# Altium footprint library Humidity Regulator.PcbLib: 29 footprints (part 1 of 2)
Each footprint in its own frame and in the unit in brackets; x right, y up, seen from the top. Pads: shape width x height; smd on the part's side, far side on the other; paste and mask are expansions set on the pad; w line width, h text height; cw(c..) or ccw(c..) is an arc to the next point about the centre after c.
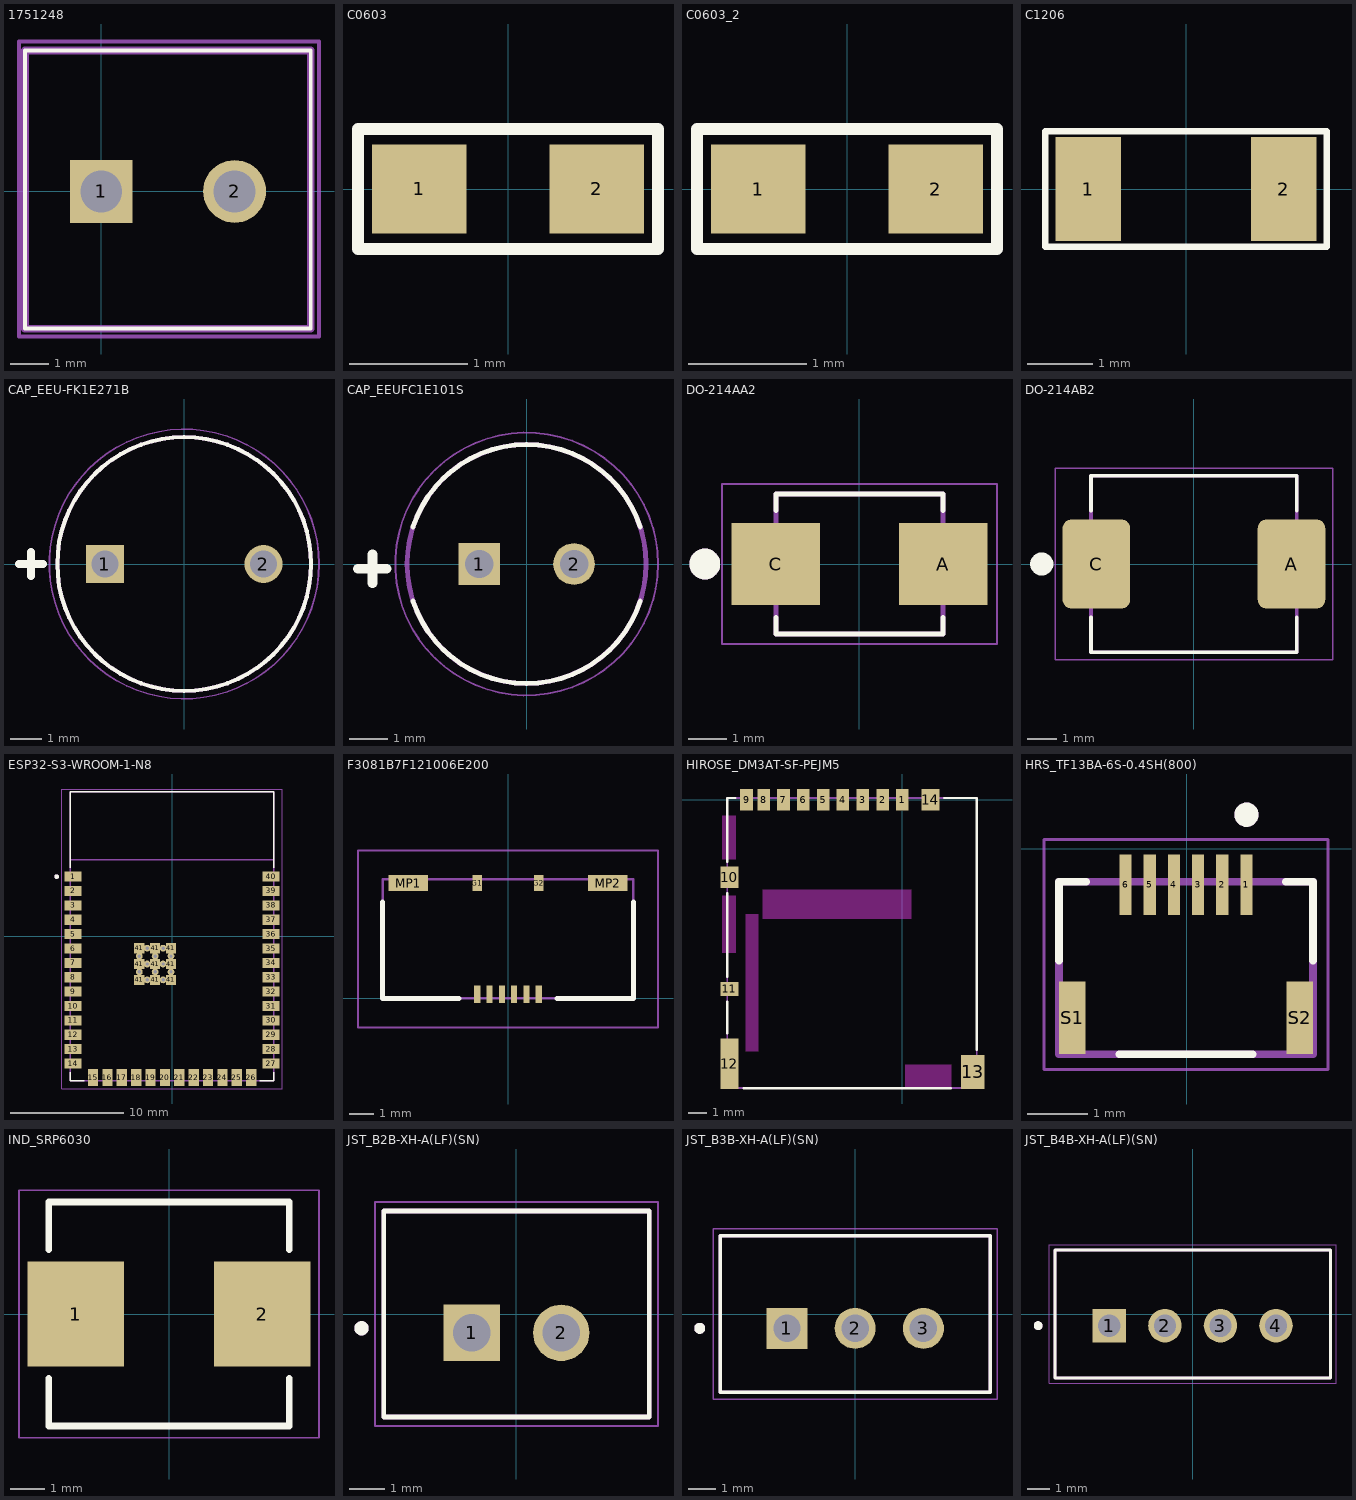
[diagram p0: the footprints below, top view; thin cyan lines are the x and y axes]

## 1751248 [mm]
height 35
pads (2):
  rect 1.65x1.65 hole 1.1: 1(0,0)
  round 1.65 hole 1.1: 2(3.5,0)
Top Overlay:
  lines w0.1: -2,-3.6 5.5,-3.6 5.5,3.7 -2,3.7 -2,-3.6
Mechanical 15:
  lines w0.2: -2,-3.6 5.5,-3.6 5.5,3.7 -2,3.7 -2,-3.6
Mechanical 20:
  lines w0.1: -2.159,-3.81 5.715,-3.81 5.715,3.937 -2.159,3.937 -2.159,-3.81
3D body "1751248.stp": height 8.5, standoff -3.5, extent -1.972,-3.65 5.528,3.65

## C0603 [mm] "CAPACITOR SMD 0603"
height 0.9
pads (2):
  rect 0.8x0.75 smd: 1(-0.75,0) 2(0.75,0)
Top Overlay:
  lines w0.1: -1.27,-0.508 1.27,-0.508 1.27,0.508 -1.27,0.508 -1.27,-0.508
3D body "User Library-0603(1608M) Cap.STEP": height 0.79, standoff 0, extent -1,-0.394 1,0.394

## C0603_2 [mm]
pads (2):
  rect 0.8x0.75 smd: 1(-0.75,0) 2(0.75,0)
Top Overlay:
  lines w0.1: -1.27,-0.508 -1.27,0.508 1.27,0.508 1.27,-0.508 -1.27,-0.508
3D body "User Library-0603(1608M) Cap.STEP": height 0.79, standoff 0, extent -1,-0.394 1,0.394

## C1206 [mm] "CAPACITOR SMD 1206"
height 0.94
pads (2):
  rect 1x1.6 smd: 1(-1.5,0) 2(1.5,0)
Top Overlay:
  lines w0.1: -2.159,-0.889 2.159,-0.889 2.159,0.889 -2.159,0.889 -2.159,-0.889
3D body "User Library-1206(3216M) Cap.STEP": height 1.53, standoff 0, extent -2,-0.8 2,0.8

## CAP_EEU-FK1E271B [mm]
height 13.5
pads (2):
  rect 1.2x1.2 hole 0.85: 1(-2.5,0)
  round 1.2 hole 0.85: 2(2.5,0)
Top Overlay:
  circle w0.127: c0,0 r4
  lines w0.254: -5.207,0 -4.445,0 ; -4.826,-0.381 -4.826,0.381
Mechanical 13:
  circle w0.127: c0,0 r4
Mechanical 15:
  circle w0.05: c0,0 r4.25
3D body "step_temp.STEP": height 11.5, standoff -17, extent -4,-4 4,4

## CAP_EEUFC1E101S [mm]
height 13.5
pads (2):
  rect 1.1x1.1 hole 0.75: 1(-1.25,0)
  round 1.1 hole 0.75: 2(1.25,0)
Top Overlay:
  lines w0.127: -2.996,-0.973 ccw(c0,0) 2.996,-0.973 ; -2.996,0.973 cw(c0,0) 2.996,0.973
  lines w0.254: -4.445,-0.127 -3.683,-0.127 ; -4.064,-0.508 -4.064,0.254
Mechanical 13:
  circle w0.127: c0,0 r3.15
Mechanical 15:
  circle w0.05: c0,0 r3.463
3D body "step_temp.STEP": height 11.2, standoff -17, extent -3.15,-3.149 3.15,3.149

## DO-214AA2 [mm]
pads (2):
  rect 2.28x2.12 smd: A(2.165,0) C(-2.165,0)
Top Overlay:
  circle w0.4: c-4,0 r0.2
  lines w0.127: -2.163,-1.38 -2.163,-1.813 2.163,-1.813 2.163,-1.38 ; -2.163,1.38 -2.163,1.813 2.163,1.813 2.163,1.38
Mechanical 13:
  circle w0.4: c-4,0 r0.2
  lines w0.127: -2.163,-1.813 2.163,-1.813 2.163,1.813 -2.163,1.813 -2.163,-1.813
Mechanical 15:
  lines w0.05: -3.555,-2.063 3.555,-2.063 3.555,2.063 -3.555,2.063 -3.555,-2.063
3D body "step_temp.STEP": height 2.46, standoff 0, extent -2.718,-1.778 2.718,1.778

## DO-214AB2 [mm]
pads (2):
  rrect25% 2.33x3.07 smd: A(3.365,0) C(-3.365,0)
Top Overlay:
  circle w0.4: c-5.25,0 r0.2
  lines w0.127: -3.55,-1.849 -3.55,-3.05 3.55,-3.05 3.55,-1.849 ; -3.55,1.849 -3.55,3.05 3.55,3.05 3.55,1.849
Mechanical 13:
  lines w0.127: -3.55,-3.05 3.55,-3.05 3.55,3.05 -3.55,3.05 -3.55,-3.05
Mechanical 15:
  lines w0.05: -4.78,-3.3 -4.78,3.3 4.78,3.3 4.78,-3.3 -4.78,-3.3
3D body "B540C-13-F.stp": height 2.5, standoff 0, extent -3.97,-2.952 3.97,2.953

## ESP32-S3-WROOM-1-N8 [mm]
pads (61):
  rect 1.5x0.9 smd: 1(-8.75,5.26) 2(-8.75,3.99) 3(-8.75,2.72) 4(-8.75,1.45) 5(-8.75,0.18) 6(-8.75,-1.09) 7(-8.75,-2.36) 8(-8.75,-3.63) 9(-8.75,-4.9) 10(-8.75,-6.17) 11(-8.75,-7.44) 12(-8.75,-8.71) 13(-8.75,-9.98) 14(-8.75,-11.25) 27(8.75,-11.25) 28(8.75,-9.98) 29(8.75,-8.71) 30(8.75,-7.44) 31(8.75,-6.17) 32(8.75,-4.9) 33(8.75,-3.63) 34(8.75,-2.36) 35(8.75,-1.09) 36(8.75,0.18) 37(8.75,1.45) 38(8.75,2.72) 39(8.75,3.99) 40(8.75,5.26)
  rect 0.9x1.5 smd: 15(-6.985,-12.5) 16(-5.715,-12.5) 17(-4.445,-12.5) 18(-3.175,-12.5) 19(-1.905,-12.5) 20(-0.635,-12.5) 21(0.635,-12.5) 22(1.905,-12.5) 23(3.175,-12.5) 24(4.445,-12.5) 25(5.715,-12.5) 26(6.985,-12.5)
  rect 0.9x0.9 smd: 41(-2.9,-3.86) 41(-2.9,-2.46) 41(-2.9,-1.06) 41(-1.5,-3.86) 41(-1.5,-2.46) 41(-1.5,-1.06) 41(-0.1,-3.86) 41(-0.1,-2.46) 41(-0.1,-1.06)
  round 0.6 hole 0.3 mask+0: 41(-2.9,-3.16) 41(-2.9,-1.76) 41(-2.2,-3.86) 41(-2.2,-2.46) 41(-2.2,-1.06) 41(-1.5,-3.16) 41(-1.5,-1.76) 41(-0.8,-3.86) 41(-0.8,-2.46) 41(-0.8,-1.06) 41(-0.1,-3.16) 41(-0.1,-1.76)
Top Overlay:
  circle w0.2: c-10.2,5.26 r0.1
  lines w0.127: -9,-12.02 -9,-12.75 -7.755,-12.75 ; -9,6.03 -9,12.75 9,12.75 9,6.03 ; 7.755,-12.75 9,-12.75 9,-12.02
Mechanical 13:
  circle w0.2: c-10.2,5.26 r0.1
  lines w0.127: -9,6.75 9,6.75 ; -9,6.75 -9,12.75 9,12.75 9,6.75 ; -9,6.75 -9,-12.75 9,-12.75 9,6.75
Mechanical 15:
  lines w0.05: -9.75,-13.5 9.75,-13.5 9.75,13 -9.75,13 -9.75,-13.5
3D body "step_temp.STEP": height 3.25, standoff 0, extent -9,-12.75 9,12.75

## F3081B7F121006E200 [mm]
pads (10):
  rect 0.25x0.7 smd: 1(-1.25,0.15) 2(-0.75,0.15) 3(-0.25,0.15) 4(0.25,0.15) 5(0.75,0.15) 6(1.25,0.15)
  rect 0.4x0.65 smd: G1(-1.25,4.675) G2(1.25,4.675)
  rect 1.6x0.65 smd: MP1(-4.05,4.675) MP2(4.05,4.675)
Top Overlay:
  lines w0.2: -5.1,3.913 -5.1,-0.012 -2,-0.012 ; 2,-0.012 5.1,-0.012 5.1,3.913
Mechanical 15:
  lines w0.1: -5.1,-0.012 5.1,-0.012 5.1,4.838 -5.1,4.838 -5.1,-0.012
Mechanical 20:
  lines w0.1: -6.1,-1.199 6.1,-1.199 6.1,6 -6.1,6 -6.1,-1.199
3D body "F308-1B7F1-21006-E200--3DModel-STEP-533217.STEP": height 2.42, standoff -0.03, extent -5.1,0.13 5.1,5.08

## HIROSE_DM3AT-SF-PEJM5 [mm] "HIROSE_DM3AT-SF-PEJM5"
height 1.83
pads (14):
  rect 0.7x1.2 smd mask+0.051: 1(0,0) 2(-1.1,0) 3(-2.2,0) 4(-3.3,0) 5(-4.4,0) 6(-5.5,0) 7(-6.6,0) 8(-7.7,0) 9(-8.65,0)
  rect 1x1.2 smd mask+0.051: 10(-9.6,-4.3) 14(1.55,0)
  rect 1x0.8 smd mask+0.051: 11(-9.6,-10.5)
  rect 1x2.8 smd mask+0.051: 12(-9.6,-14.65)
  rect 1.3x1.9 smd mask+0.051: 13(3.901,-15.1)
Top Layer keep-out:
  region: -8.701,-6.36 -8.701,-13.96 -8.001,-13.96 -8.001,-6.36
  region: -7.747,-6.6 0.5,-6.6 0.5,-5 -7.747,-5
  region: -10.001,-0.889 -10.001,-3.302 -9.25,-3.302 -9.25,-0.889
  region: -10.001,-5.334 -10.001,-8.5 -9.25,-8.5 -9.25,-5.334
  region: 0.152,-16.049 2.699,-16.049 2.699,-14.699 0.152,-14.699
Top Overlay:
  lines w0.127: -9.725,-3.433 -9.725,0.1 -9.267,0.1 ; -9.723,-5.167 -9.718,-9.829 ; -9.722,-12.95 -9.722,-11.197 ; -8.82,-16.003 2.686,-16.003 ; 2.317,0.103 4.121,0.103 4.121,-13.883
Mechanical 12:
  lines w0.102: -9.724,-16.002 -9.724,0.1 4.126,0.1 4.126,-16.002 -9.724,-16.002
3D body "DM3AT-SF-PEJM5.stp": height 1.68, standoff 0, extent -9.724,-16.05 4.126,0.1

## HRS_TF13BA-6S-0.4SH(800) [mm]
pads (8):
  rect 0.2x1 smd: 1(0.989,-0.594) 2(0.589,-0.594) 3(0.189,-0.594) 4(-0.211,-0.594) 5(-0.611,-0.594) 6(-1.011,-0.594)
  rect 0.44x1.2 smd: S1(-1.891,-2.794) S2(1.869,-2.794)
Top Overlay:
  circle w0.2: c0.989,0.566 r0.1
  lines w0.127: -2.111,-1.844 -2.111,-0.544 -1.661,-0.544 ; -1.111,-3.394 1.089,-3.394 ; 1.639,-0.544 2.089,-0.544 2.089,-1.844
Mechanical 13:
  circle w0.2: c0.989,0.566 r0.1
  lines w0.127: -2.111,-3.394 2.089,-3.394 2.089,-0.544 -2.111,-0.544 -2.111,-3.394
Mechanical 15:
  lines w0.05: -2.361,-3.644 2.339,-3.644 2.339,0.156 -2.361,0.156 -2.361,-3.644
3D body "TF13BA-6S-0.4SH-800---3DModel-STEP-1.STEP": height 0.9, standoff 0, extent -2.114,-3.479 2.086,-0.479

## IND_SRP6030 [mm]
pads (2):
  rect 2.85x3.1 smd: 1(-2.75,0) 2(2.75,0)
Top Overlay:
  lines w0.2: -3.55,-1.905 -3.55,-3.3 3.55,-3.3 ; -3.55,1.905 -3.55,3.3 ; -3.55,3.3 3.55,3.3 ; 3.55,1.905 3.55,3.3 ; 3.55,-3.3 3.55,-1.905
Mechanical 20:
  lines w0.05: -4.425,-3.65 4.425,-3.65 4.425,3.65 -4.425,3.65 -4.425,-3.65
3D body "SRP6030WA-220M.stp": height 3, standoff 0, extent -3.55,-3.3 3.55,3.3

## JST_B2B-XH-A(LF)(SN) [mm]
height 7
pads (2):
  rect 1.575x1.575 hole 1.05: 1(-1.25,-0.525)
  round 1.575 hole 1.05: 2(1.25,-0.525)
Top Overlay:
  circle w0.2: c-4.323,-0.398 r0.1
  lines w0.127: -3.7,-2.875 3.7,-2.875 3.7,2.875 -3.7,2.875 -3.7,-2.875
Mechanical 13:
  circle w0.2: c-4.323,-0.398 r0.1
  lines w0.127: -3.7,-2.875 3.7,-2.875 3.7,2.875 -3.7,2.875 -3.7,-2.875
Mechanical 15:
  lines w0.05: -3.95,-3.125 -3.95,3.125 3.95,3.125 3.95,-3.125 -3.95,-3.125
3D body "step_temp.STEP": height 7, standoff -3.4, extent -3.7,-2.875 3.7,2.875

## JST_B3B-XH-A(LF)(SN) [mm]
height 7
pads (3):
  rect 1.508x1.508 hole 1: 1(-2.5,-0.525)
  round 1.508 hole 1: 2(0,-0.525) 3(2.5,-0.525)
Top Overlay:
  circle w0.2: c-5.7,-0.525 r0.1
  lines w0.127: -4.95,-2.875 4.95,-2.875 4.95,2.875 -4.95,2.875 -4.95,-2.875
Mechanical 13:
  circle w0.2: c-5.7,-0.525 r0.1
  lines w0.127: -4.95,-2.875 4.95,-2.875 4.95,2.875 -4.95,2.875 -4.95,-2.875
Mechanical 15:
  lines w0.05: -5.2,-3.125 -5.2,3.125 5.2,3.125 5.2,-3.125 -5.2,-3.125
3D body "step_temp.STEP": height 7, standoff -3.4, extent -4.95,-2.875 4.95,2.875

## JST_B4B-XH-A(LF)(SN) [mm]
height 7
pads (4):
  rect 1.508x1.508 hole 1: 1(-3.75,-0.525)
  round 1.508 hole 1: 2(-1.25,-0.525) 3(1.25,-0.525) 4(3.75,-0.525)
Top Overlay:
  circle w0.2: c-6.95,-0.525 r0.1
  lines w0.127: -6.2,-2.875 -6.2,2.875 6.2,2.875 6.2,-2.875 -6.2,-2.875
Mechanical 13:
  circle w0.2: c-6.95,-0.525 r0.1
  lines w0.127: -6.2,-2.875 -6.2,2.875 6.2,2.875 6.2,-2.875 -6.2,-2.875
Mechanical 15:
  lines w0.05: -6.45,-3.125 6.45,-3.125 6.45,3.125 -6.45,3.125 -6.45,-3.125
3D body "step_temp.STEP": height 7, standoff -3.4, extent -6.2,-2.875 6.2,2.875